# Altium footprint library Misc.PcbLib: 133 footprints (part 7 of 9)
Each footprint in its own frame and in the unit in brackets; x right, y up, seen from the top. Pads: shape width x height; smd on the part's side, far side on the other; paste and mask are expansions set on the pad; w line width, h text height; cw(c..) or ccw(c..) is an arc to the next point about the centre after c.
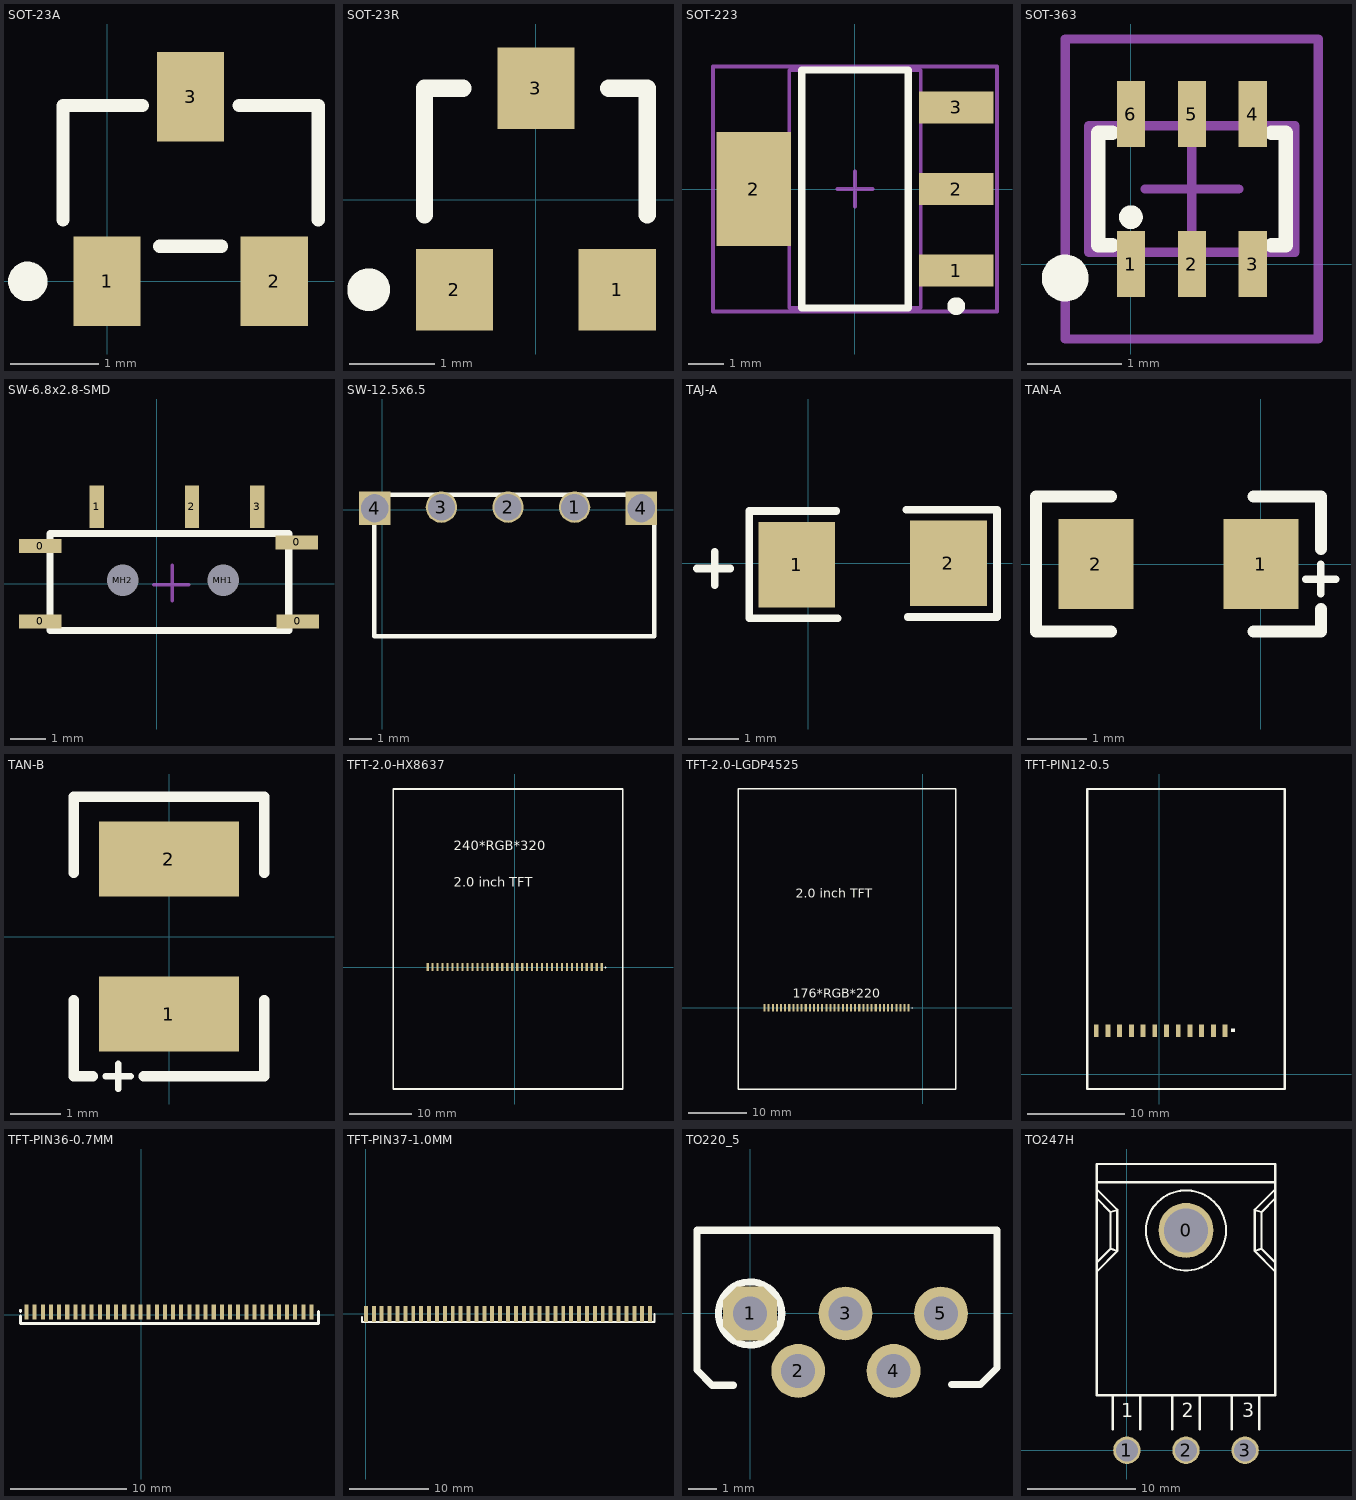
[diagram p6: the footprints below, top view; thin cyan lines are the x and y axes]

## SOT-23A [mil] "SOT-23 footprint"
height 43.31
pads (3):
  rect 30x40 smd: 1(0,0) 2(74.8,0) 3(37.4,82.68)
Top Overlay:
  circle w9.84: c-35.43,0 r3.94
  lines w5.91: -19.68,27.56 -19.68,78.74 15.75,78.74 ; 23.62,15.75 51.18,15.75 ; 59.06,78.74 94.49,78.74 94.49,27.56
3D body: height 39.37, standoff 0, extent -20.07,-4.72 94.89,87.41

## SOT-23R [mm]
pads (3):
  rect 0.9x0.95 smd: 1(0.95,-1.048) 2(-0.95,-1.048) 3(0,1.302)
Top Overlay:
  circle w0.25: c-1.95,-1.048 r0.125
  lines w0.2: -1.3,-0.173 -1.3,1.302 -0.85,1.302 ; 0.85,1.302 1.3,1.302 1.3,-0.173

## SOT-223 [mm] "3 LEAD SOT-223 PLASTIC PACKAGE"
height 1.8
pads (4):
  rect 2.1x0.9 smd: 1(2.85,-2.3) 2(2.85,0) 3(2.85,2.3)
  rect 2.1x3.2 smd: 2(-2.85,0)
Top Overlay:
  circle w0.25: c2.85,-3.3 r0.125
  lines w0.2: -1.5,-3.35 1.5,-3.35 1.5,3.35 -1.5,3.35 -1.5,-3.35
Mechanical 13:
  lines w0.1: -1.85,-3.35 1.85,-3.35 1.85,3.35 -1.85,3.35 -1.85,-3.35
Mechanical 15:
  lines w0.1: -0.5,0 0.5,0 ; 0,-0.5 0,0.5 ; -4,-3.45 4,-3.45 4,3.45 -4,3.45 -4,-3.45
3D body: height 1.65, standoff 0, extent -3.543,-3.25 3.543,3.25

## SOT-363 [mm] "SOT-363 (SC88)"
height 1.1
pads (6):
  rect 0.3x0.7 smd: 1(0,0) 2(0.65,0) 3(1.3,0) 4(1.3,1.6) 5(0.65,1.6) 6(0,1.6)
Top Overlay:
  circle w0.25: c-0.7,-0.15 r0.125
  circle w0.152: c0,0.5 r0.05
  lines w0.152: -0.2,0.2 -0.35,0.2 -0.35,1.4 -0.2,1.4 ; 1.5,0.2 1.65,0.2 1.65,1.4 1.5,1.4
Mechanical 13:
  lines w0.1: -0.45,0.125 1.75,0.125 1.75,1.475 -0.45,1.475 -0.45,0.125
Mechanical 15:
  lines w0.1: 0.15,0.8 1.15,0.8 ; 0.65,0.3 0.65,1.3 ; -0.7,-0.8 2,-0.8 2,2.4 -0.7,2.4 -0.7,-0.8
3D body: height 0.93, standoff -0.02, extent -0.35,-0.25 1.65,1.85

## SW-6.8x2.8-SMD [mm] "6.8MM,2.8MM,SMD"
pads (9):
  rect 1.2x0.4 smd: 0(-3.302,-1.067) 0(-3.302,1.067) 0(3.962,1.168) 0(3.988,-1.067)
  rect 0.4x1.2 smd: 1(-1.702,2.184) 2(0.991,2.184) 3(2.839,2.184)
  round 0.6 hole 0.9 unplated: MH1(1.88,0.102) MH2(-0.965,0.102)
Top Overlay:
  lines w0.203: -3.023,1.27 -3.023,1.422 3.734,1.422 3.734,-0.94 ; -3.023,1.295 -3.023,-1.321 3.734,-1.321 3.734,-0.838
Mechanical 13:
  lines w0.1: -3.023,-1.27 3.684,-1.27 3.684,1.397 -3.023,1.397 -3.023,-1.27
Mechanical 15:
  lines w0.1: -0.094,-0.025 0.906,-0.025 ; 0.432,-0.483 0.432,0.517
3D body: height 1.1, standoff 0, extent -2.946,-1.219 3.634,1.321

## SW-12.5x6.5 [mm] "12.5*6.5MM"
pads (5):
  round 1.4 hole 1.2: 1(8.623,0.126) 2(5.639,0.126) 3(2.654,0.126)
  rect 1.4x1.5 hole 1.2 slot 1.25 at 90 deg: 4(-0.33,0.076) 4(11.608,0.076)
Top Overlay:
  lines w0.2: -0.356,-5.664 -0.356,0.686 12.192,0.686 12.192,-5.664 -0.356,-5.664

## TAJ-A [mil] "TAJ CAP A TYPE 3216"
height 200
pads (2):
  rect 60x66.93 smd: 1(-9,-1) 2(110,0)
Top Overlay:
  lines w6: -87,-4 -61,-4 ; -73,-17 -73,9 ; 22,41 -46,41 -46,-43 23,-43 ; 77,42 148,42 148,-42 78,-42

## TAN-A [mil]
height 39.37
pads (2):
  rect 50x60 smd: 1(0,0) 2(-110,0)
Top Overlay:
  lines w5: 30,-10 50,-10 ; 40,-20 40,0
  lines w8: -100,-45 -150,-45 -150,45 -100,45 ; -5,-45 40,-45 40,-30 ; -5,45 40,45 40,10

## TAN-B [mm]
height 5
pads (2):
  rect 2.8x1.5 smd: 1(0,-1.55) 2(0,1.55)
Top Overlay:
  lines w0.127: -1.27,-2.794 -0.762,-2.794 ; -1.016,-3.048 -1.016,-2.54
  lines w0.203: -1.905,-1.27 -1.905,-2.794 -1.524,-2.794 ; -1.905,1.27 -1.905,2.794 1.905,2.794 1.905,1.27 ; -0.508,-2.794 1.905,-2.794 1.905,-1.27
Mechanical 13:
  lines w0.1: -1.35,-1.7 1.35,-1.7 ; -1.35,1.7 1.35,1.7

## TFT-2.0-HX8637 [mm]
pads (36):
  rect 0.35x1.3 smd: 1(14,0) 2(13.2,0) 3(12.4,0) 4(11.6,0) 5(10.8,0) 6(10,0) 7(9.2,0) 8(8.4,0) 9(7.6,0) 10(6.8,0) 11(6,0) 12(5.2,0) 13(4.4,0) 14(3.6,0) 15(2.8,0) 16(2,0) 17(1.2,0) 18(0.4,0) 19(-0.4,0) 20(-1.2,0) 21(-2,0) 22(-2.8,0) 23(-3.6,0) 24(-4.4,0) 25(-5.2,0) 26(-6,0) 27(-6.8,0) 28(-7.6,0) 29(-8.4,0) 30(-9.2,0) 31(-10,0) 32(-10.8,0) 33(-11.6,0) 34(-12.4,0) 35(-13.2,0) 36(-14,0)
Top Overlay:
  lines w0.254: 14.605,-0.127 14.605,0 ; -19.558,-19.603 -19.558,28.657 17.399,28.657 17.399,-19.603 -19.558,-19.603
  text "240*RGB*320" at -9.779,18.796 h1.52
  text "2.0 inch TFT" at -9.779,12.954 h1.52

## TFT-2.0-LGDP4525 [mm]
pads (36):
  rect 0.35x1.3 smd: 1(-2.38,0.004) 2(-3.08,0.004) 3(-3.781,0.004) 4(-4.481,0.004) 5(-5.182,0.004) 6(-5.883,0.004) 7(-6.583,0.004) 8(-7.284,0.004) 9(-7.984,0.004) 10(-8.685,0.004) 11(-9.385,0.004) 12(-10.086,0.004) 13(-10.787,0.004) 14(-11.487,0.004) 15(-12.188,0.004) 16(-12.888,0.004) 17(-13.589,0.004) 18(-14.29,0.004) 19(-14.99,0.004) 20(-15.691,0.004) 21(-16.391,0.004) 22(-17.092,0.004) 23(-17.792,0.004) 24(-18.493,0.004) 25(-19.194,0.004) 26(-19.894,0.004) 27(-20.595,0.004) 28(-21.295,0.004) 29(-21.996,0.004) 30(-22.697,0.004) 31(-23.397,0.004) 32(-24.098,0.004) 33(-24.798,0.004) 34(-25.499,0.004) 35(-26.199,0.004) 36(-26.9,0.004)
Top Overlay:
  lines w0.254: -1.774,-0.123 -1.774,0.004 ; 5.606,34.079 5.606,37.209 -31.351,37.209 -31.351,34.415 -31.351,-13.845 5.606,-13.845 5.606,34.415
  text "176*RGB*220" at -22.098,1.651 h1.52
  text "2.0 inch TFT" at -21.572,18.712 h1.52

## TFT-PIN12-0.5 [mm]
pads (12):
  rect 0.5x1.3 smd: 1(6.731,4.445) 2(5.531,4.445) 3(4.331,4.445) 4(3.131,4.445) 5(1.931,4.445) 6(0.731,4.445) 7(-0.469,4.445) 8(-1.669,4.445) 9(-2.869,4.445) 10(-4.069,4.445) 11(-5.269,4.445) 12(-6.469,4.445)
Top Overlay:
  region: 7.747,4.699 7.366,4.699 7.366,4.318 7.747,4.318
  lines w0.254: -7.366,-1.524 -7.366,29.21 12.827,29.21 12.827,-1.524 -7.366,-1.524

## TFT-PIN36-0.7MM [mm]
pads (36):
  rect 0.35x1.3 smd: 1(-9.877,0.228) 2(-9.177,0.228) 3(-8.477,0.228) 4(-7.777,0.228) 5(-7.077,0.228) 6(-6.377,0.228) 7(-5.677,0.228) 8(-4.977,0.228) 9(-4.277,0.228) 10(-3.577,0.228) 11(-2.877,0.228) 12(-2.177,0.228) 13(-1.477,0.228) 14(-0.777,0.228) 15(-0.077,0.228) 16(0.623,0.228) 17(1.323,0.228) 18(2.023,0.228) 19(2.723,0.228) 20(3.423,0.228) 21(4.123,0.228) 22(4.823,0.228) 23(5.523,0.228) 24(6.223,0.228) 25(6.923,0.228) 26(7.623,0.228) 27(8.323,0.228) 28(9.023,0.228) 29(9.723,0.228) 30(10.423,0.228) 31(11.123,0.228) 32(11.823,0.228) 33(12.523,0.228) 34(13.223,0.228) 35(13.923,0.228) 36(14.623,0.228)
Top Overlay:
  lines w0.254: -10.414,-0.127 -10.414,-0.762 15.24,-0.762 15.24,0.254 ; -10.414,0.254 -10.414,0.381

## TFT-PIN37-1.0MM [mm]
pads (37):
  rect 0.5x2 smd: 1(0,0) 2(1,0) 3(2,0) 4(3,0) 5(4,0) 6(5,0) 7(6,0) 8(7,0) 9(8,0) 10(9,0) 11(10,0) 12(11,0) 13(12,0) 14(13,0) 15(14,0) 16(15,0) 17(16,0) 18(17,0) 19(18,0) 20(19,0) 21(20,0) 22(21,0) 23(22,0) 24(23,0) 25(24,0) 26(25,0) 27(26,0) 28(27,0) 29(28,0) 30(29,0) 31(30,0) 32(31,0) 33(32,0) 34(33,0) 35(34,0) 36(35,0) 37(36,0)
Top Overlay:
  lines w0.254: -0.508,-0.381 -0.508,-1.016 36.576,-1.016 36.576,0

## TO220_5 [mm]
pads (5):
  oct 1.905x1.905 hole 1.2: 1(0,0)
  round 1.905 hole 1.2: 2(1.702,-2.032) 3(3.378,0) 4(5.08,-2.032) 5(6.756,0)
Top Overlay:
  circle w0.254: c0,0 r1.118
  lines w0.254: -0.584,-2.54 -1.346,-2.54 -1.88,-2.006 -1.88,1.34 -1.88,2.946 8.74,2.946 8.74,1.432 8.74,-1.928 8.151,-2.517 7.135,-2.517
3D body: height 19.35, standoff -2.26, extent -1.68,-2.1 8.48,2.8

## TO247H [mil]
pads (4):
  round 200 hole 160: 0(215,800)
  round 100 hole 80: 1(0,0) 2(215,0) 3(430,0)
Top Overlay:
  circle w7.87: c215,800 r145.6
  lines w7.87: -110,650 -35,725 ; -110,683.33 -60,733.33 ; -110,916.67 -60,866.67 ; -110,950 -35,875 ; -110,975 540,975 ; -51.67,75 -51.67,200 ; 48.33,75 48.33,200 ; 165,75 165,200 ; 265,75 265,200 ; 381.67,75 381.67,200 ; 481.67,75 481.67,200 ; 540,650 465,725 ; 540,683.33 490,733.33 ; 540,916.67 490,866.67 ; 540,950 465,875 ; -60,733.33 -60,866.67 ; -60,733.33 -35,725 ; -60,866.67 -35,875 ; -35,725 -35,875 ; 465,725 465,875 ; 465,725 490,733.33 ; 465,875 490,866.67 ; 490,733.33 490,866.67 ; -110,200 540,200 540,1041.67 -110,1041.67 -110,200
  text "1" at -20,120 h50
  text "2" at 200,120 h50
  text "3" at 420,120 h50
3D body: height 153.54, standoff -314.96, extent -90,0 520.24,1000